# EAGLE library part NYS2162 (library CYCFI_Con)
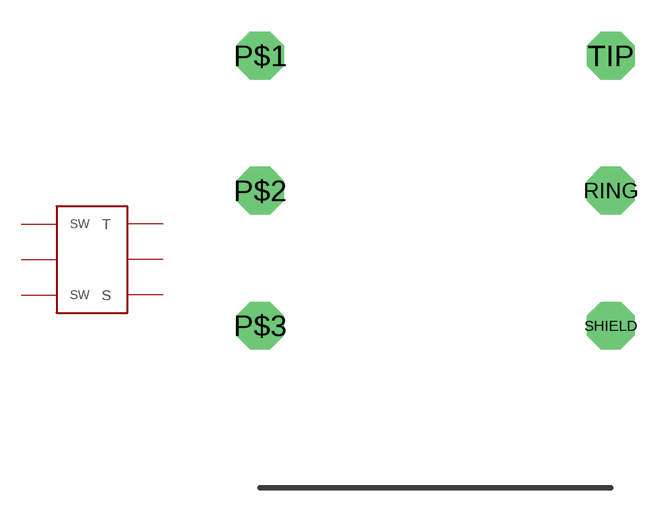
[diagram p5: symbol with the pads of STEREO_JACK_REAN; footprint STEREO_JACK_REAN]

Designator prefix -

## NYS2162  [STEREO_JACK_REAN]
P$1  NC
P$2  P$5
P$3  P$6
RING  P$2
SHIELD  S
TIP  T

## Footprint STEREO_JACK_REAN (pad centres in mm)
drill 1.5 octagon: P$1 -8.25,6.35; P$2 -8.25,0; P$3 -8.25,-6.35; RING 8.25,0; SHIELD 8.25,-6.35; TIP 8.25,6.35